# Altium schematic symbol library OpenPLCv0.2.0_Misc.SchLib: 9 symbols
Pins are listed as number, name and electrical type; pins without a type are passive.

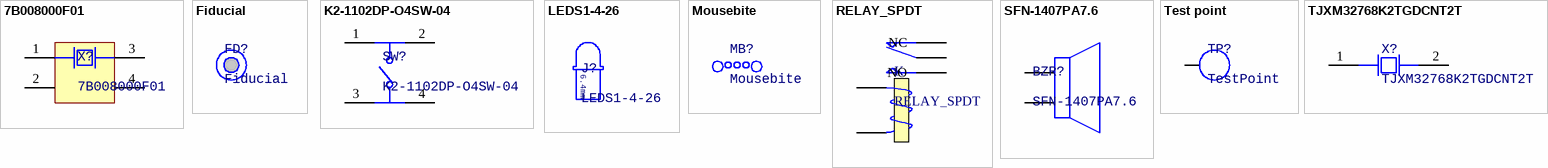
[diagram p0: symbols 7B008000F01 to TJXM32768K2TGDCNT2T]

## 7B008000F01
designator X?
8MHz ±10ppm 8pF 200Ω SMD-3225_4P SMD Crystal Resonators RoHS
footprint CRYSTAL_3225
pins: 1, 2, 3, 4

## Fiducial
designator FD?
footprint Fiducial

## K2-1102DP-O4SW-04
designator SW?
6x6x11mm Through Hole Tactile Switches ROHS
footprint K2-1102DP-O4SW-04
pins: 1, 2, 3, 4

## LEDS1-4-26
designator J?
3mm LED spacer 6.4mm height
footprint 3MM_LED_SPACER_6.4MM
text: 6.4mm

## Mousebite
designator MB?
footprint MOUSEBITE

## RELAY_SPDT
designator K
footprint HF3FA/012-ZST (SPDT Relay)
pins: 1 COM, 2 NC, 3 NO, 4 T1, 5 T2

## SFN-1407PA7.6
designator BZR?
Piezo YES 3300±500Hz 85dB @ 24V, 10cm 24V Φ23.5mm Through Hole Buzzers RoHS
footprint SFN-1407PA7.6
pins: 1, 2

## Test point
designator TP?, comment TestPoint  (no BOM)
footprint Pad
pins: 1

## TJXM32768K2TGDCNT2T
designator X?
32.768KHz ±20ppm 12.5pF 70kΩ SMD-2012_2P SMD Crystal Resonators RoHS
footprint CRYSTAL_2012
pins: 1, 2